# EAGLE library part UCC27212DPRT (library UCC27212DPRT)
Gate Drivers 120-V Boot, 4-A Peak, High-Frequency High-Side and Low-Side Driver 10-WSON -40 to 140 <https://componentsearchengine.com/Images/9/UCC27212DPRT.jpg> Source: Datasheet <http://www.ti.com/lit/ds/symlink/ucc27212.pdf>
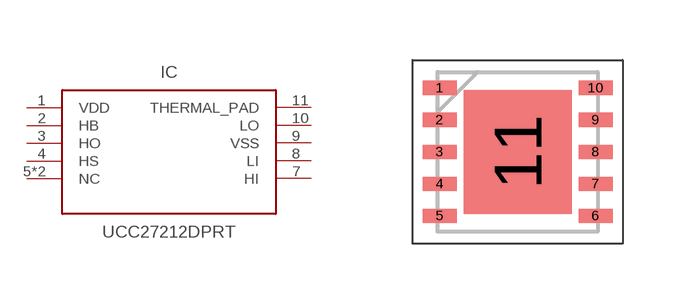
[diagram p0: symbol with the pads of SON80P400X400X80-11N; footprint SON80P400X400X80-11N]

Designator prefix IC

## UCC27212DPRT (DESCRIPTION: Gate Drivers 120-V Boot, 4-A Peak, High-Frequency High-Side and Low-Side Driver 10-WSON -40 to 140; HEIGHT: 0.8mm; MANUFACTURER_NAME: Texas Instruments; MANUFACTURER_PART_NUMBER: UCC27212DPRT; SUPPLIER_NAME: RS)  [SON80P400X400X80-11N]
1  VDD  pas
2  HB  pas
3  HO  pas
4  HS  pas
5  NC  pas
6  NC  pas
7  HI  pas
8  LI  pas
9  VSS  pas
10  LO  pas
11  THERMAL_PAD  pas

## Footprint SON80P400X400X80-11N (pad centres in mm)
DPR (S-PWSON-N10)
smd 0.85 x 0.35: 1 -1.95,1.6; 2 -1.95,0.8; 3 -1.95,0; 4 -1.95,-0.8; 5 -1.95,-1.6; 6 1.95,-1.6; 7 1.95,-0.8; 8 1.95,0; 9 1.95,0.8; 10 1.95,1.6
smd 2.7 x 3.1: 11 0,0